# EAGLE library part LP2986-33 (library LP2986IM-33)
LP2986 Micropower, 200 mA Ultra Low-Dropout Fixed or Adjustable Voltage Regulator Packge: Mini SO-8 (The same as MUA08A) The datasheet is available on: http://www.national.com/an/AN/AN-1187.pdf Designed by: Razi Raslan Razi.Raslan@Gmail.com Tampere University of Technology
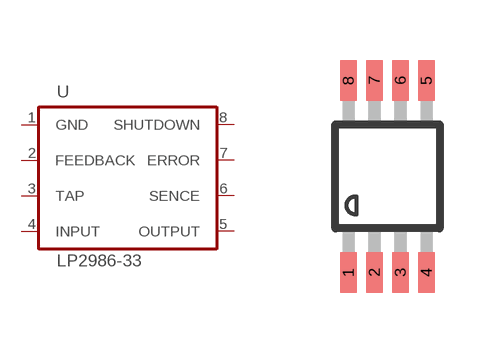
[diagram p0: symbol with the pads of LP2986-33; footprint LP2986-33]

Designator prefix U

## LP2986-33  [LP2986-33]
1  GND  out
2  FEEDBACK  in
3  TAP  in
4  INPUT  pwr
5  OUTPUT  out
6  SENCE  in
7  ERROR  out
8  SHUTDOWN  pas

## Footprint LP2986-33 (pad centres in mm)
smd 0.41 x 1.02: 1 -0.975,-2.4; 2 -0.325,-2.4; 3 0.325,-2.4; 4 0.975,-2.4; 5 0.975,2.4; 6 0.325,2.4; 7 -0.325,2.4; 8 -0.975,2.4